# Altium integrated library Lattice MachXO.IntLib: 790 symbols (part 22 of 50)
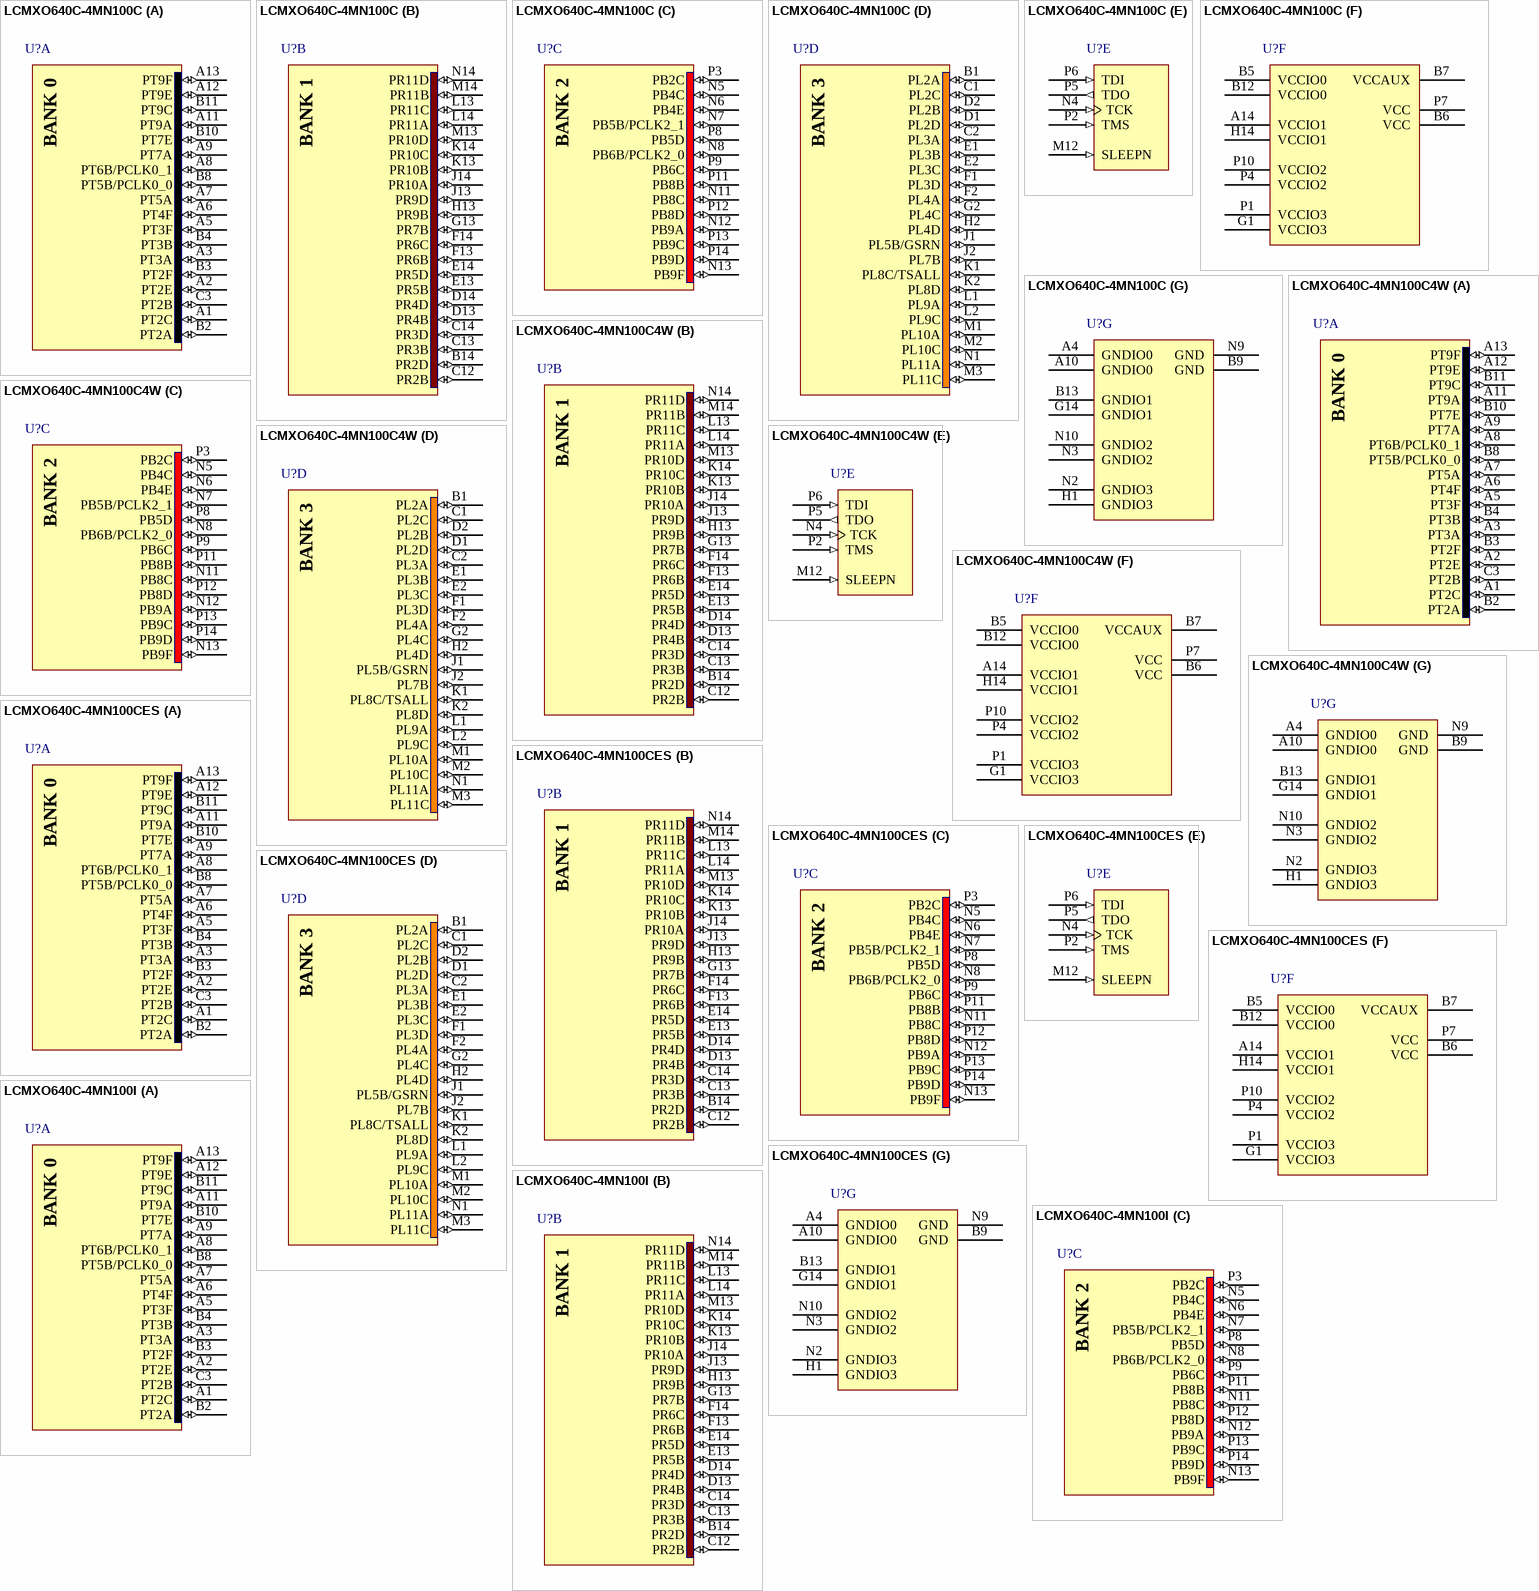
[diagram p473: symbols LCMXO640C-4MN100C to LCMXO640C-4MN100I]

## LCMXO640C-4MN100C
designator U?
MachXO 640 Crossover PLD, 1.8V/2.5V/3.3V, 74 User I/Os, 100-Pins csBGA, Speed Grade-4, Commercial Grade, Pb-Free; Published: 13-Apr-2006; DatasheetVersion: ver2.2, Aug-2006; PackageVersion: pkg_33, Apr-2006; PackageReference: csBGA100; Publisher: Altium Limited; PackageDescription: 100-Ball Chip Scale Ball Grid Array (csBGA100); ComponentLink1Description: Manufacturer Link; ComponentLink1URL: http://www.latticesemi.com/products/cpld/machXO/index.cfm; ComponentLink2Description: Datasheet; ComponentLink2URL: http://www.latticesemi.com/lit/docs/datasheets/cpld/DS1002_machxo.pdf
footprint csBGA100 (BGA, 100-Leads, Body 8x8mm, Pitch 0.5mm)
3D model MachXO640-csBGA100 (100-Ball Chip Scale Ball Grid Array (csBGA100))
signal-integrity model LCMXO640C_M100 (MachXO)
part A pins: A1 PT2C (io), A2 PT2E (io), A3 PT3A (io), A5 PT3F (io), A6 PT4F (io), A7 PT5A (io), A8 PT6B/PCLK0_1 (io), A9 PT7A (io), A11 PT9A (io), A12 PT9E (io), A13 PT9F (io), B2 PT2A (io), B3 PT2F (io), B4 PT3B (io), B8 PT5B/PCLK0_0 (io), B10 PT7E (io), B11 PT9C (io), C3 PT2B (io)
part B pins: B14 PR2D (io), C12 PR2B (io), C13 PR3B (io), C14 PR3D (io), D13 PR4B (io), D14 PR4D (io), E13 PR5B (io), E14 PR5D (io), F13 PR6B (io), F14 PR6C (io), G13 PR7B (io), H13 PR9B (io), J13 PR9D (io), J14 PR10A (io), K13 PR10B (io), K14 PR10C (io), L13 PR11C (io), L14 PR11A (io), M13 PR10D (io), M14 PR11B (io), N14 PR11D (io)
part C pins: N5 PB4C (io), N6 PB4E (io), N7 PB5B/PCLK2_1 (io), N8 PB6B/PCLK2_0 (io), N11 PB8C (io), N12 PB9A (io), N13 PB9F (io), P3 PB2C (io), P8 PB5D (io), P9 PB6C (io), P11 PB8B (io), P12 PB8D (io), P13 PB9C (io), P14 PB9D (io)
part D pins: B1 PL2A (io), C1 PL2C (io), C2 PL3A (io), D1 PL2D (io), D2 PL2B (io), E1 PL3B (io), E2 PL3C (io), F1 PL3D (io), F2 PL4A (io), G2 PL4C (io), H2 PL4D (io), J1 PL5B/GSRN (io), J2 PL7B (io), K1 PL8C/TSALL (io), K2 PL8D (io), L1 PL9A (io), L2 PL9C (io), M1 PL10A (io), M2 PL10C (io), M3 PL11C (io), N1 PL11A (io)
part E pins: M12 SLEEPN (in) "Powered by VCCIO2", N4 TCK (in) "Powered by VCCIO2", P2 TMS (in) "Powered by VCCIO2", P5 TDO (out) "Powered by VCCIO2", P6 TDI (in) "Powered by VCCIO2"
part F pins: A14 VCCIO1 (power), B5 VCCIO0 (power), B6 VCC (power), B7 VCCAUX (power), B12 VCCIO0 (power), G1 VCCIO3 (power), H14 VCCIO1 (power), P1 VCCIO3 (power), P4 VCCIO2 (power), P7 VCC (power), P10 VCCIO2 (power)
part G pins: A4 GNDIO0 (power), A10 GNDIO0 (power), B9 GND (power), B13 GNDIO1 (power), G14 GNDIO1 (power), H1 GNDIO3 (power), N2 GNDIO3 (power), N3 GNDIO2 (power), N9 GND (power), N10 GNDIO2 (power)
part A text: BANK 0
part B text: BANK 1
part C text: BANK 2
part D text: BANK 3

## LCMXO640C-4MN100C4W
designator U?
MachXO 640 Crossover PLD, 1.8V/2.5V/3.3V, 74 User I/Os, 100-Pins csBGA, Speed Grade-4, Commercial Grade, Pb-Free; Published: 13-Apr-2006; DatasheetVersion: ver2.1, May-2006; PackageVersion: pkg_33, Apr-2006; PackageReference: csBGA100; Publisher: Altium Limited; PackageDescription: 100-Ball Chip Scale Ball Grid Array (csBGA100); ComponentLink1Description: Manufacturer Link; ComponentLink1URL: http://www.latticesemi.com/products/cpld/machXO/index.cfm; ComponentLink2Description: Datasheet; ComponentLink2URL: http://www.latticesemi.com/lit/docs/datasheets/cpld/machxo.pdf
footprint csBGA100 (BGA, 100-Leads, Body 8x8mm, Pitch 0.5mm)
3D model MachXO640-csBGA100 (100-Ball Chip Scale Ball Grid Array (csBGA100))
signal-integrity model LCMXO640C_M100 (MachXO)
part A pins: A1 PT2C (io), A2 PT2E (io), A3 PT3A (io), A5 PT3F (io), A6 PT4F (io), A7 PT5A (io), A8 PT6B/PCLK0_1 (io), A9 PT7A (io), A11 PT9A (io), A12 PT9E (io), A13 PT9F (io), B2 PT2A (io), B3 PT2F (io), B4 PT3B (io), B8 PT5B/PCLK0_0 (io), B10 PT7E (io), B11 PT9C (io), C3 PT2B (io)
part B pins: B14 PR2D (io), C12 PR2B (io), C13 PR3B (io), C14 PR3D (io), D13 PR4B (io), D14 PR4D (io), E13 PR5B (io), E14 PR5D (io), F13 PR6B (io), F14 PR6C (io), G13 PR7B (io), H13 PR9B (io), J13 PR9D (io), J14 PR10A (io), K13 PR10B (io), K14 PR10C (io), L13 PR11C (io), L14 PR11A (io), M13 PR10D (io), M14 PR11B (io), N14 PR11D (io)
part C pins: N5 PB4C (io), N6 PB4E (io), N7 PB5B/PCLK2_1 (io), N8 PB6B/PCLK2_0 (io), N11 PB8C (io), N12 PB9A (io), N13 PB9F (io), P3 PB2C (io), P8 PB5D (io), P9 PB6C (io), P11 PB8B (io), P12 PB8D (io), P13 PB9C (io), P14 PB9D (io)
part D pins: B1 PL2A (io), C1 PL2C (io), C2 PL3A (io), D1 PL2D (io), D2 PL2B (io), E1 PL3B (io), E2 PL3C (io), F1 PL3D (io), F2 PL4A (io), G2 PL4C (io), H2 PL4D (io), J1 PL5B/GSRN (io), J2 PL7B (io), K1 PL8C/TSALL (io), K2 PL8D (io), L1 PL9A (io), L2 PL9C (io), M1 PL10A (io), M2 PL10C (io), M3 PL11C (io), N1 PL11A (io)
part E pins: M12 SLEEPN (in) "Powered by VCCIO2", N4 TCK (in) "Powered by VCCIO2", P2 TMS (in) "Powered by VCCIO2", P5 TDO (out) "Powered by VCCIO2", P6 TDI (in) "Powered by VCCIO2"
part F pins: A14 VCCIO1 (power), B5 VCCIO0 (power), B6 VCC (power), B7 VCCAUX (power), B12 VCCIO0 (power), G1 VCCIO3 (power), H14 VCCIO1 (power), P1 VCCIO3 (power), P4 VCCIO2 (power), P7 VCC (power), P10 VCCIO2 (power)
part G pins: A4 GNDIO0 (power), A10 GNDIO0 (power), B9 GND (power), B13 GNDIO1 (power), G14 GNDIO1 (power), H1 GNDIO3 (power), N2 GNDIO3 (power), N3 GNDIO2 (power), N9 GND (power), N10 GNDIO2 (power)
part A text: BANK 0
part B text: BANK 1
part C text: BANK 2
part D text: BANK 3

## LCMXO640C-4MN100CES
designator U?
MachXO 640 Crossover PLD, 1.8V/2.5V/3.3V, 74 User I/Os, 100-Pins csBGA, Speed Grade-4, Commercial Grade, Pb-Free, Engineering Sample; Published: 31-Jul-2006; DatasheetVersion: ver2.1, May-2006; PackageVersion: pkg_33, Apr-2006; PackageReference: csBGA100; Publisher: Altium Limited; PackageDescription: 100-Ball Chip Scale Ball Grid Array (csBGA100); ComponentLink1Description: Manufacturer Link; ComponentLink1URL: http://www.latticesemi.com/products/cpld/machXO/index.cfm; ComponentLink2Description: Datasheet; ComponentLink2URL: http://www.latticesemi.com/lit/docs/datasheets/cpld/machxo.pdf
footprint csBGA100 (BGA, 100-Leads, Body 8x8mm, Pitch 0.5mm)
3D model MachXO640-csBGA100 (100-Ball Chip Scale Ball Grid Array (csBGA100))
signal-integrity model LCMXO640C_M100 (MachXO)
part A pins: A1 PT2C (io), A2 PT2E (io), A3 PT3A (io), A5 PT3F (io), A6 PT4F (io), A7 PT5A (io), A8 PT6B/PCLK0_1 (io), A9 PT7A (io), A11 PT9A (io), A12 PT9E (io), A13 PT9F (io), B2 PT2A (io), B3 PT2F (io), B4 PT3B (io), B8 PT5B/PCLK0_0 (io), B10 PT7E (io), B11 PT9C (io), C3 PT2B (io)
part B pins: B14 PR2D (io), C12 PR2B (io), C13 PR3B (io), C14 PR3D (io), D13 PR4B (io), D14 PR4D (io), E13 PR5B (io), E14 PR5D (io), F13 PR6B (io), F14 PR6C (io), G13 PR7B (io), H13 PR9B (io), J13 PR9D (io), J14 PR10A (io), K13 PR10B (io), K14 PR10C (io), L13 PR11C (io), L14 PR11A (io), M13 PR10D (io), M14 PR11B (io), N14 PR11D (io)
part C pins: N5 PB4C (io), N6 PB4E (io), N7 PB5B/PCLK2_1 (io), N8 PB6B/PCLK2_0 (io), N11 PB8C (io), N12 PB9A (io), N13 PB9F (io), P3 PB2C (io), P8 PB5D (io), P9 PB6C (io), P11 PB8B (io), P12 PB8D (io), P13 PB9C (io), P14 PB9D (io)
part D pins: B1 PL2A (io), C1 PL2C (io), C2 PL3A (io), D1 PL2D (io), D2 PL2B (io), E1 PL3B (io), E2 PL3C (io), F1 PL3D (io), F2 PL4A (io), G2 PL4C (io), H2 PL4D (io), J1 PL5B/GSRN (io), J2 PL7B (io), K1 PL8C/TSALL (io), K2 PL8D (io), L1 PL9A (io), L2 PL9C (io), M1 PL10A (io), M2 PL10C (io), M3 PL11C (io), N1 PL11A (io)
part E pins: M12 SLEEPN (in) "Powered by VCCIO2", N4 TCK (in) "Powered by VCCIO2", P2 TMS (in) "Powered by VCCIO2", P5 TDO (out) "Powered by VCCIO2", P6 TDI (in) "Powered by VCCIO2"
part F pins: A14 VCCIO1 (power), B5 VCCIO0 (power), B6 VCC (power), B7 VCCAUX (power), B12 VCCIO0 (power), G1 VCCIO3 (power), H14 VCCIO1 (power), P1 VCCIO3 (power), P4 VCCIO2 (power), P7 VCC (power), P10 VCCIO2 (power)
part G pins: A4 GNDIO0 (power), A10 GNDIO0 (power), B9 GND (power), B13 GNDIO1 (power), G14 GNDIO1 (power), H1 GNDIO3 (power), N2 GNDIO3 (power), N3 GNDIO2 (power), N9 GND (power), N10 GNDIO2 (power)
part A text: BANK 0
part B text: BANK 1
part C text: BANK 2
part D text: BANK 3

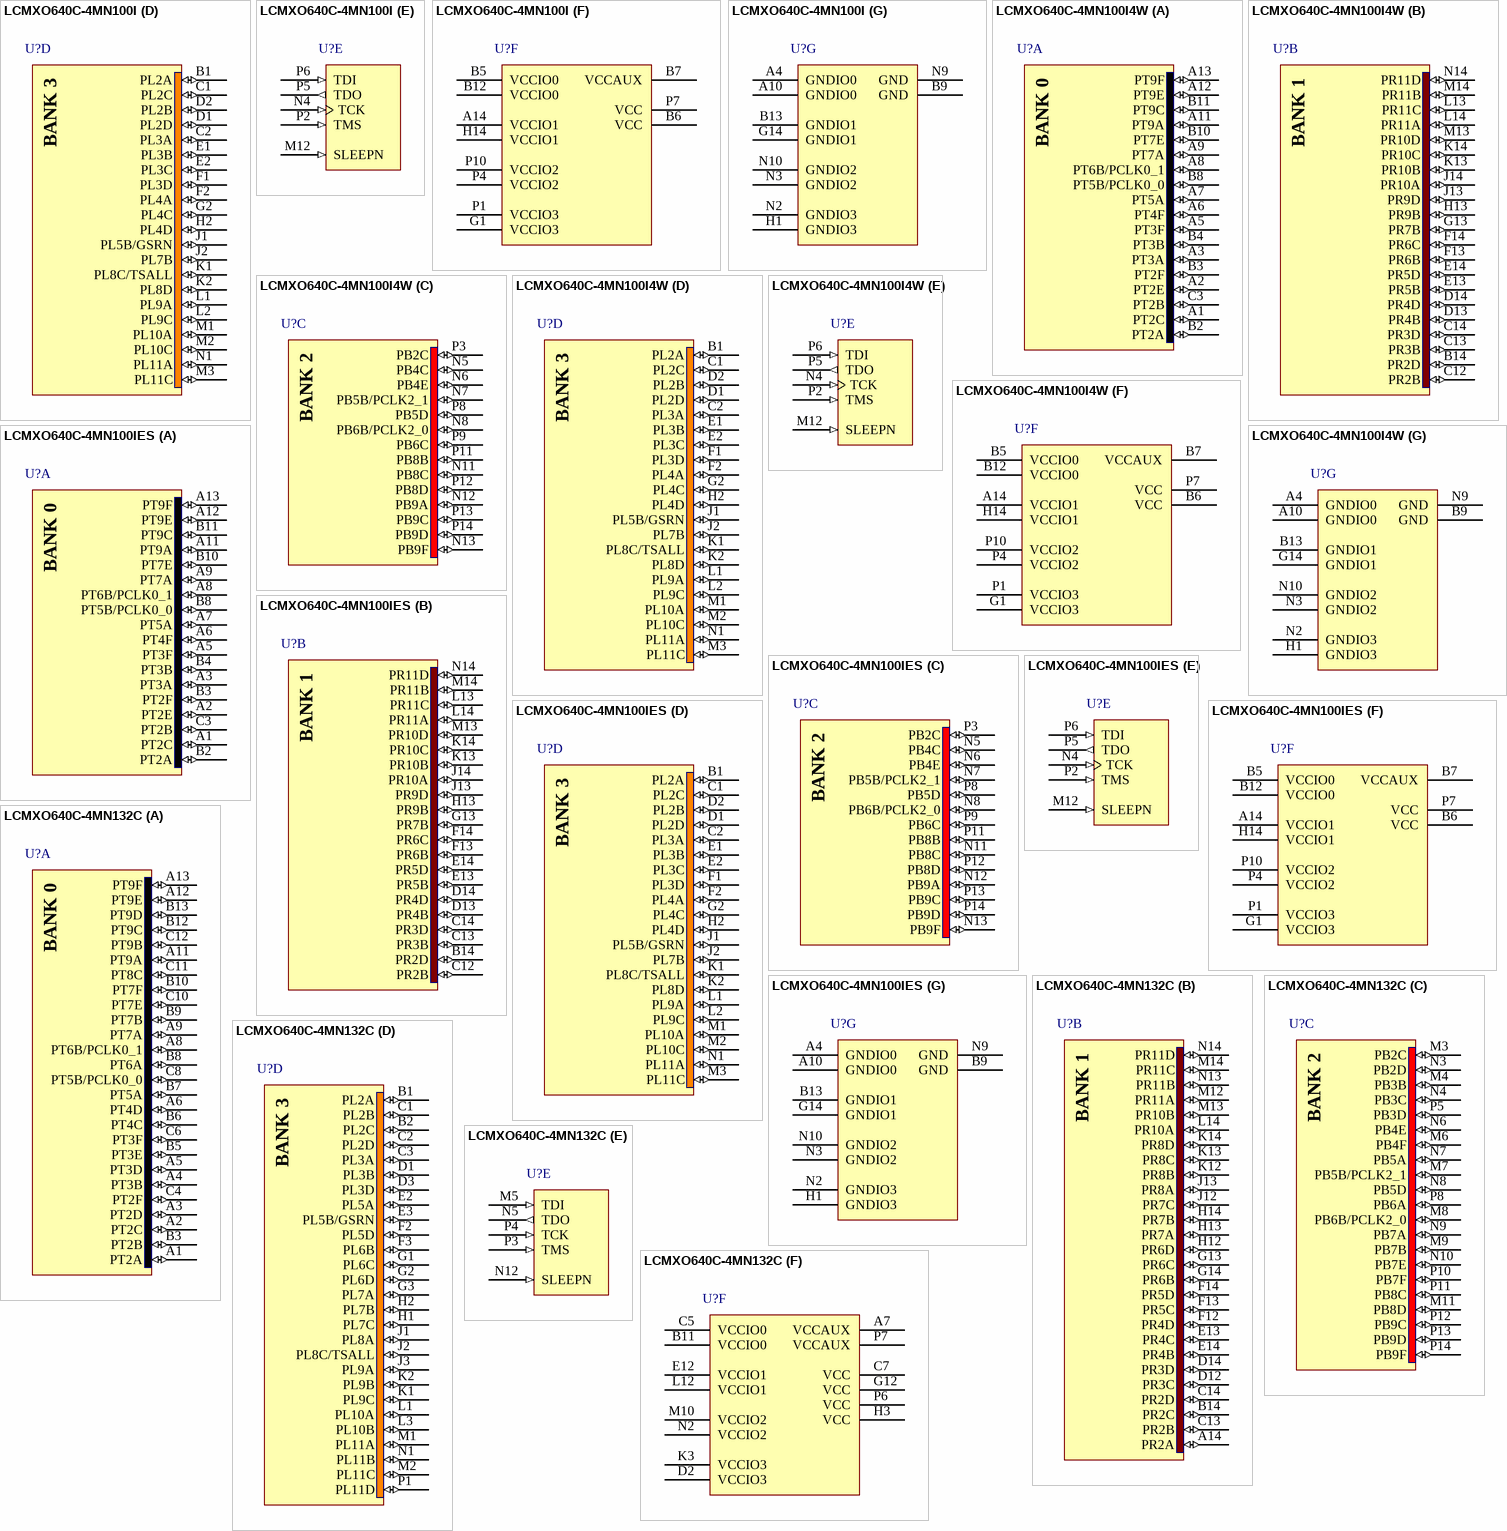
[diagram p66: symbols LCMXO640C-4MN100I to LCMXO640C-4MN132C]

## LCMXO640C-4MN100I
designator U?
MachXO 640 Crossover PLD, 1.8V/2.5V/3.3V, 74 User I/Os, 100-Pins csBGA, Speed Grade-4, Industrial Grade, Pb-Free; Published: 13-Apr-2006; DatasheetVersion: ver2.2, Aug-2006; PackageVersion: pkg_33, Apr-2006; PackageReference: csBGA100; Publisher: Altium Limited; PackageDescription: 100-Ball Chip Scale Ball Grid Array (csBGA100); ComponentLink1Description: Manufacturer Link; ComponentLink1URL: http://www.latticesemi.com/products/cpld/machXO/index.cfm; ComponentLink2Description: Datasheet; ComponentLink2URL: http://www.latticesemi.com/lit/docs/datasheets/cpld/DS1002_machxo.pdf
footprint csBGA100 (BGA, 100-Leads, Body 8x8mm, Pitch 0.5mm)
3D model MachXO640-csBGA100 (100-Ball Chip Scale Ball Grid Array (csBGA100))
signal-integrity model LCMXO640C_M100 (MachXO)
part A pins: A1 PT2C (io), A2 PT2E (io), A3 PT3A (io), A5 PT3F (io), A6 PT4F (io), A7 PT5A (io), A8 PT6B/PCLK0_1 (io), A9 PT7A (io), A11 PT9A (io), A12 PT9E (io), A13 PT9F (io), B2 PT2A (io), B3 PT2F (io), B4 PT3B (io), B8 PT5B/PCLK0_0 (io), B10 PT7E (io), B11 PT9C (io), C3 PT2B (io)
part B pins: B14 PR2D (io), C12 PR2B (io), C13 PR3B (io), C14 PR3D (io), D13 PR4B (io), D14 PR4D (io), E13 PR5B (io), E14 PR5D (io), F13 PR6B (io), F14 PR6C (io), G13 PR7B (io), H13 PR9B (io), J13 PR9D (io), J14 PR10A (io), K13 PR10B (io), K14 PR10C (io), L13 PR11C (io), L14 PR11A (io), M13 PR10D (io), M14 PR11B (io), N14 PR11D (io)
part C pins: N5 PB4C (io), N6 PB4E (io), N7 PB5B/PCLK2_1 (io), N8 PB6B/PCLK2_0 (io), N11 PB8C (io), N12 PB9A (io), N13 PB9F (io), P3 PB2C (io), P8 PB5D (io), P9 PB6C (io), P11 PB8B (io), P12 PB8D (io), P13 PB9C (io), P14 PB9D (io)
part D pins: B1 PL2A (io), C1 PL2C (io), C2 PL3A (io), D1 PL2D (io), D2 PL2B (io), E1 PL3B (io), E2 PL3C (io), F1 PL3D (io), F2 PL4A (io), G2 PL4C (io), H2 PL4D (io), J1 PL5B/GSRN (io), J2 PL7B (io), K1 PL8C/TSALL (io), K2 PL8D (io), L1 PL9A (io), L2 PL9C (io), M1 PL10A (io), M2 PL10C (io), M3 PL11C (io), N1 PL11A (io)
part E pins: M12 SLEEPN (in) "Powered by VCCIO2", N4 TCK (in) "Powered by VCCIO2", P2 TMS (in) "Powered by VCCIO2", P5 TDO (out) "Powered by VCCIO2", P6 TDI (in) "Powered by VCCIO2"
part F pins: A14 VCCIO1 (power), B5 VCCIO0 (power), B6 VCC (power), B7 VCCAUX (power), B12 VCCIO0 (power), G1 VCCIO3 (power), H14 VCCIO1 (power), P1 VCCIO3 (power), P4 VCCIO2 (power), P7 VCC (power), P10 VCCIO2 (power)
part G pins: A4 GNDIO0 (power), A10 GNDIO0 (power), B9 GND (power), B13 GNDIO1 (power), G14 GNDIO1 (power), H1 GNDIO3 (power), N2 GNDIO3 (power), N3 GNDIO2 (power), N9 GND (power), N10 GNDIO2 (power)
part A text: BANK 0
part B text: BANK 1
part C text: BANK 2
part D text: BANK 3